# EAGLE library part 5584ТМ9 (library std-logic-5584series)
АЕЯР.431200.209 ТУ 5584ТМ9У, 5584ТМ9АУ - Шесть D-триггеров.
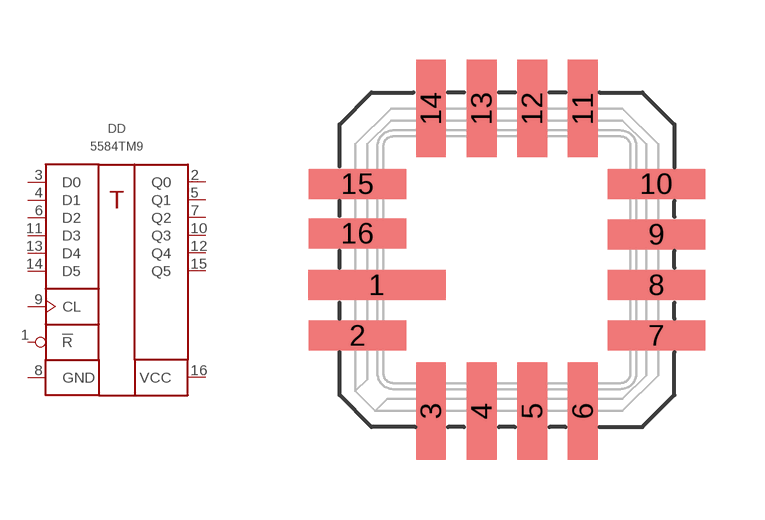
[diagram p22: symbol with the pads of 5119.16-А; footprint 5119.16-А]

Designator prefix DD

## 5584ТМ9У  [5119.16-А]
1  !R  in
2  Q0  out
3  D0  in
4  D1  in
5  Q1  out
6  D2  in
7  Q2  out
8  GND  pwr
9  CL  in
10  Q3  out
11  D3  in
12  Q4  out
13  D4  in
14  D5  in
15  Q5  out
16  VCC  pwr

## 5584ТМ9АУ  [5119.16-А]
Pads as for 5119.16-А

## Footprint 5119.16-А (pad centres in mm)
smd 3.45 x 0.75: 1 -3.26,-0.635
smd 2.45 x 0.75: 2 -3.75,-1.905; 7 3.75,-1.905; 8 3.75,-0.635; 9 3.75,0.635; 10 3.75,1.905; 15 -3.75,1.905; 16 -3.75,0.66
smd 0.75 x 2.45: 3 -1.905,-3.8; 4 -0.635,-3.8; 5 0.635,-3.8; 6 1.905,-3.8; 11 1.905,3.8; 12 0.635,3.8; 13 -0.635,3.8; 14 -1.905,3.8